# EAGLE library part 61200622323 (library Wuerth_Elektronik_eiCan_Box_Header_&_IDC_Connectors_v1.2)
WR-BHD 2.54mm Board to Cable Transition Connector, 6 Pins
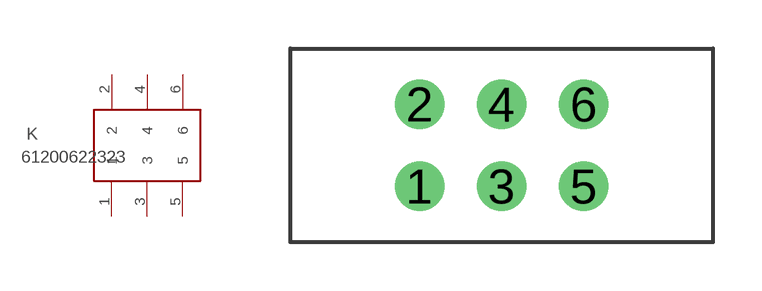
[diagram p163: symbol with the pads of 61200622323; footprint 61200622323]

Designator prefix K

## 61200622323  [61200622323]
1  1  pas
2  2  pas
3  3  pas
4  4  pas
5  5  pas
6  6  pas

## Footprint 61200622323 (pad centres in mm)
WR-BHD 2.54mm Board to Cable Transition Connector, 6 Pins
drill 1.02 round: 1 -2.54,-1.27; 2 -2.54,1.27; 3 0,-1.27; 4 0,1.27; 5 2.54,-1.27; 6 2.54,1.27